# Altium footprint library LED_XZMDKVG55W-4.PcbLib: 1 footprints
Each footprint in its own frame and in the unit in brackets; x right, y up, seen from the top. Pads: shape width x height; smd on the part's side, far side on the other; paste and mask are expansions set on the pad; w line width, h text height; cw(c..) or ccw(c..) is an arc to the next point about the centre after c.
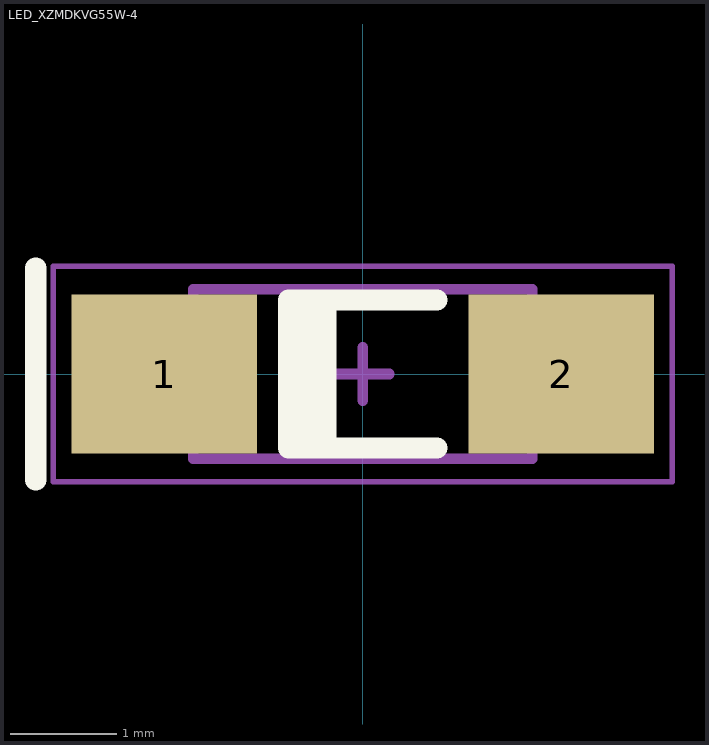
[diagram p0: the footprint, top view; thin cyan lines are the x and y axes]

## LED_XZMDKVG55W-4 [mm] "SunLED XZMDKVG55W-4"
height 1.1
pads (2):
  rect 1.75x1.5 smd: 1(-1.875,0) 2(1.875,0)
Top Overlay:
  rectangle: -0.7,-0.7 -0.25,0.7
  lines w0.2: -3.086,-1 -3.086,1 ; 0.7,-0.7 -0.7,-0.7 -0.7,0.7 0.7,0.7
Mechanical 13:
  lines w0.1: -1.6,-0.8 -1.6,0.8 1.6,0.8 1.6,-0.8 -1.6,-0.8
Mechanical 15:
  lines w0.05: -2.921,-1.016 2.921,-1.016 2.921,1.016 -2.921,1.016 -2.921,-1.016
  lines w0.1: -0.25,0 0.25,0 ; 0,-0.25 0,0.25
3D body: height 1.1, standoff 0, extent -1.6,-0.8 1.6,0.8